# Altium footprint library Leonardo_Rev3d.PcbLib: 28 footprints (part 2 of 2)
Each footprint in its own frame and in the unit in brackets; x right, y up, seen from the top. Pads: shape width x height; smd on the part's side, far side on the other; paste and mask are expansions set on the pad; w line width, h text height; cw(c..) or ccw(c..) is an arc to the next point about the centre after c.
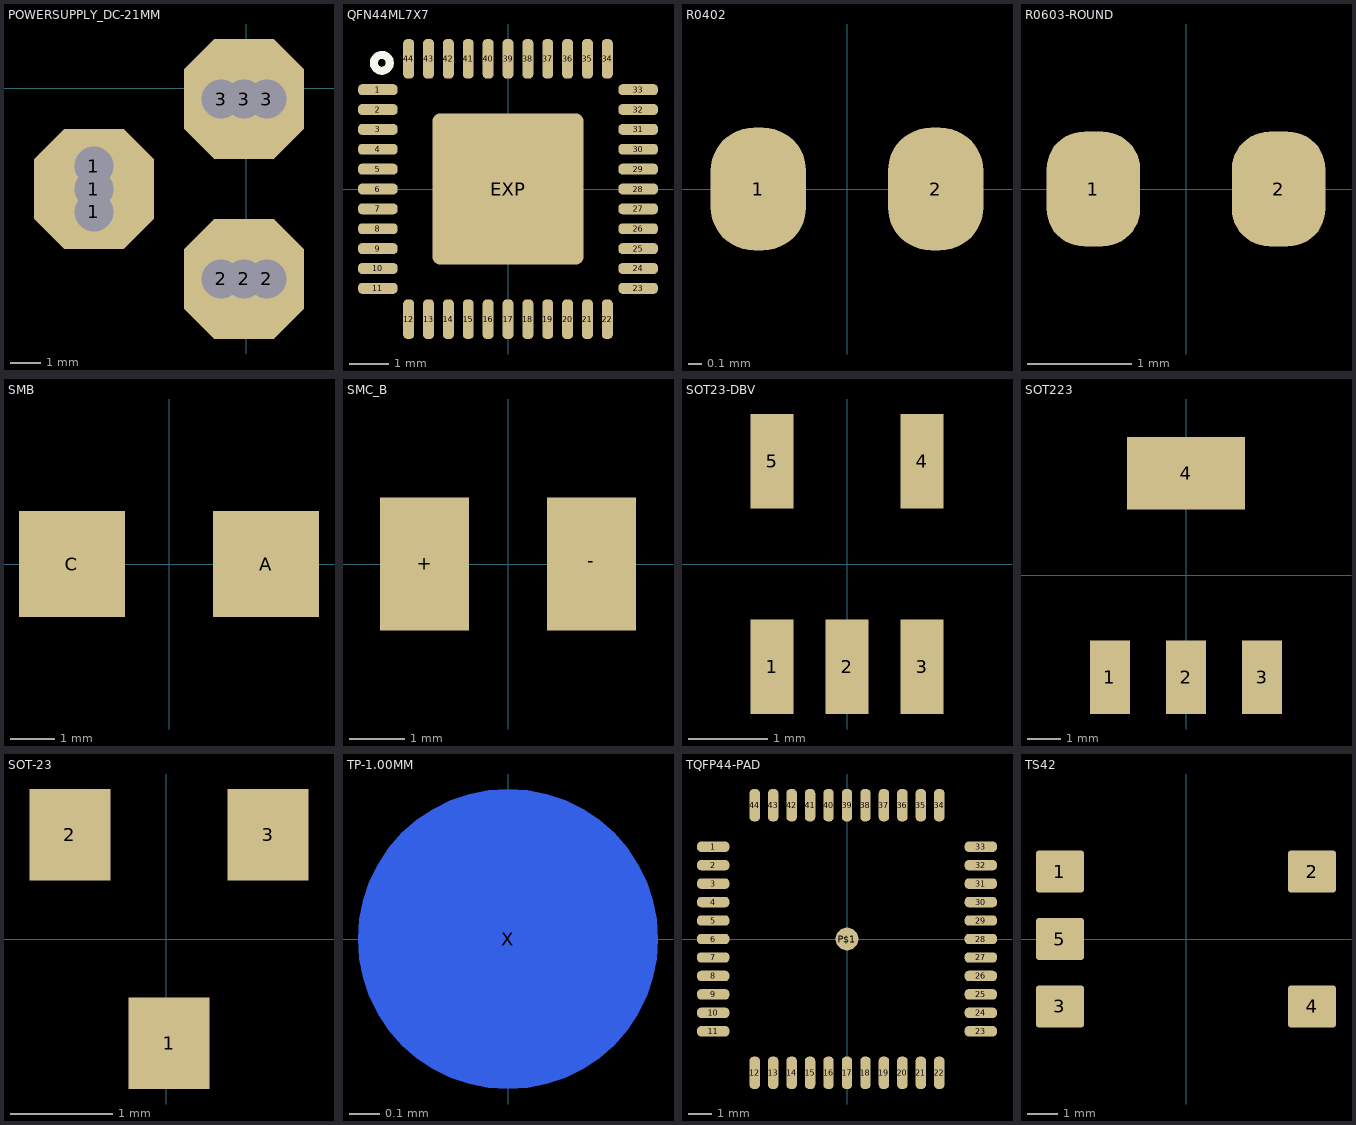
[diagram p1: the footprints below, top view; thin cyan lines are the x and y axes]

## POWERSUPPLY_DC-21MM [mil] "POWERSUPPLY_DC-21MM"
pads (9):
  round 76.77 hole 51.18: 1(-200,-162) 1(-200,-102) 2(-33,-250) 2(27,-250) 3(-33,-14) 3(27,-14)
  oct 157.48x157.48 / inner round 145.49 / far side oct 157.48x157.48 hole 51.18: 1(-200,-132) 2(-3,-250) 3(-3,-14)

## QFN44ML7X7 [mm] "QFN44ML7X7"
pads (45):
  rrect80% 1x0.275 smd: 1(-3.275,2.5) 2(-3.275,2) 3(-3.275,1.5) 4(-3.275,1) 5(-3.275,0.5) 6(-3.275,0) 7(-3.275,-0.5) 8(-3.275,-1) 9(-3.275,-1.5) 10(-3.275,-2) 11(-3.275,-2.5) 23(3.275,-2.5) 24(3.275,-2) 25(3.275,-1.5) 26(3.275,-1) 27(3.275,-0.5) 28(3.275,0) 29(3.275,0.5) 30(3.275,1) 31(3.275,1.5) 32(3.275,2) 33(3.275,2.5)
  rrect80% 0.275x1 smd: 12(-2.5,-3.275) 13(-2,-3.275) 14(-1.5,-3.275) 15(-1,-3.275) 16(-0.5,-3.275) 17(0,-3.275) 18(0.5,-3.275) 19(1,-3.275) 20(1.5,-3.275) 21(2,-3.275) 22(2.5,-3.275) 34(2.5,3.275) 35(2,3.275) 36(1.5,3.275) 37(1,3.275) 38(0.5,3.275) 39(0,3.275) 40(-0.5,3.275) 41(-1,3.275) 42(-1.5,3.275) 43(-2,3.275) 44(-2.5,3.275)
  rrect10% 3.81x3.81 smd paste-2.413 mask-2.413: EXP(0,0)
Top Overlay:
  circle w0.2: c-3.175,3.175 r0.2
Top Paste:
  circle w1.27: c0,0 r0.635
Top Solder:
  circle w2.54: c0,0 r0.635

## R0402 [mm] "R0402"
pads (2):
  rrect90% 0.7x0.9 smd: 1(-0.65,0) 2(0.65,0)

## R0603-ROUND [mil] "R0603-ROUND"
pads (2):
  rrect80% 35.37x43.31 smd: 1(-35,0) 2(35,0)

## SMB [mm] "SMB"
pads (2):
  rect 2.4x2.4 smd: A(2.2,0) C(-2.2,0)

## SMC_B [mm] "SMC_B"
pads (2):
  rect 1.6x2.4 smd: +(-1.5,0) -(1.5,0)

## SOT23-DBV [mm] "SOT23-DBV"
pads (5):
  rect 0.55x1.2 smd: 1(-0.95,-1.3) 2(0,-1.3) 3(0.95,-1.3) 4(0.95,1.3) 5(-0.95,1.3)

## SOT223 [mil] "SOT223"
pads (4):
  rect 48x88 smd: 1(-91,-122) 2(0,-122) 3(91,-122)
  rect 141.73x86.61 smd: 4(0,122.01)

## SOT-23 [mil] "SOT-23"
pads (3):
  rect 31x35 smd: 1(1,-40) 2(-37,40) 3(39,40)

## TP-1.00MM [mm] "TP-1.00MM"
pads (1):
  rrect100% 1x1 smd far side paste-0.5: X(0,0)

## TQFP44-PAD [mm] "TQFP44-PAD"
pads (45):
  rrect80% 1.4x0.45 smd: 1(-5.8,4) 2(-5.8,3.2) 3(-5.8,2.4) 4(-5.8,1.6) 5(-5.8,0.8) 6(-5.8,0) 7(-5.8,-0.8) 8(-5.8,-1.6) 9(-5.8,-2.4) 10(-5.8,-3.2) 11(-5.8,-4) 23(5.8,-4) 24(5.8,-3.2) 25(5.8,-2.4) 26(5.8,-1.6) 27(5.8,-0.8) 28(5.8,0) 29(5.8,0.8) 30(5.8,1.6) 31(5.8,2.4) 32(5.8,3.2) 33(5.8,4)
  rrect80% 0.45x1.4 smd: 12(-4,-5.8) 13(-3.2,-5.8) 14(-2.4,-5.8) 15(-1.6,-5.8) 16(-0.8,-5.8) 17(0,-5.8) 18(0.8,-5.8) 19(1.6,-5.8) 20(2.4,-5.8) 21(3.2,-5.8) 22(4,-5.8) 34(4,5.8) 35(3.2,5.8) 36(2.4,5.8) 37(1.6,5.8) 38(0.8,5.8) 39(0,5.8) 40(-0.8,5.8) 41(-1.6,5.8) 42(-2.4,5.8) 43(-3.2,5.8) 44(-4,5.8)
  rrect100% 1x1 smd: P$1(0,0)

## TS42 [mm] "TS42"
pads (5):
  rrect15% 1.6x1.4 smd: 1(-4.2,2.25) 2(4.2,2.25) 3(-4.2,-2.25) 4(4.2,-2.25)
  rrect15% 1.6x1.4 smd paste-0.8: 5(-4.2,0)
Top Paste:
  region: -4.699,-0.381 -4.699,0.381 -3.81,0.381 -3.81,-0.381